# Altium footprint library BGA6C40P3X2_157X88X50B23L.PcbLib: 1 footprints
Each footprint in its own frame and in the unit in brackets; x right, y up, seen from the top. Pads: shape width x height; smd on the part's side, far side on the other; paste and mask are expansions set on the pad; w line width, h text height; cw(c..) or ccw(c..) is an arc to the next point about the centre after c.
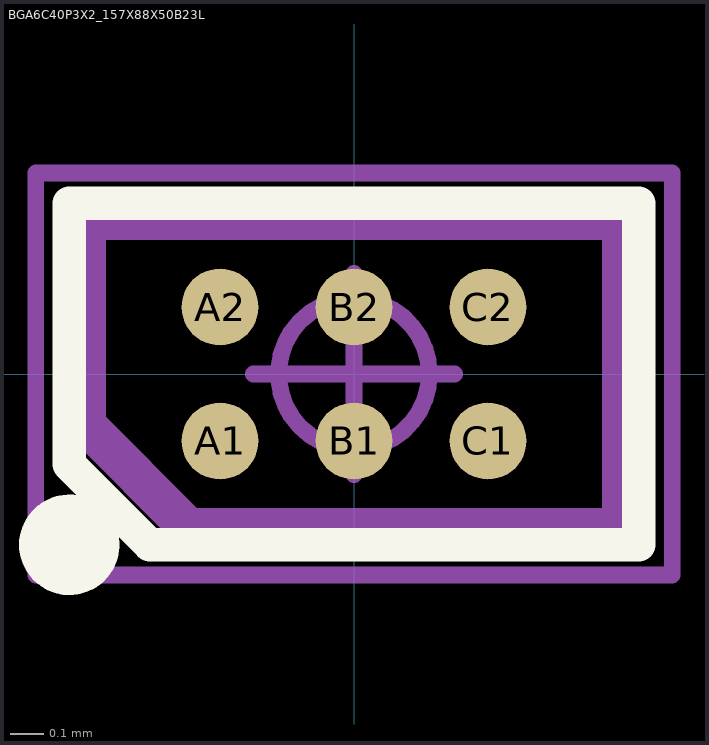
[diagram p0: the footprint, top view; thin cyan lines are the x and y axes]

## BGA6C40P3X2_157X88X50B23L [mm] "Ball Grid Array (BGA), 0.40 mm pitch, rect.; 6 pin, 1.578 mm L X 0.88 mm W X 0.50 mm H body"
height 0.5
pads (6):
  round 0.23 smd mask+0.03: A1(-0.4,-0.2) A2(-0.4,0.2) B1(0,-0.2) B2(0,0.2) C1(0.4,-0.2) C2(0.4,0.2)
Top Overlay:
  circle w0.15: c-0.85,-0.51 r0.075
  lines w0.1: -0.85,-0.27 -0.85,0.51 0.85,0.51 0.85,-0.51 -0.61,-0.51 -0.85,-0.27
Fab - Detail1, HDI1:
  lines w0.12: -0.8,-0.153 -0.493,-0.46 0.8,-0.46 0.8,0.46 -0.8,0.46 -0.8,-0.153
Courtyards/Models - Top:
  circle w0.05: c0,0 r0.225
  lines w0.05: -0.3,0 0.3,0 ; 0,-0.3 0,0.3 ; -0.95,-0.6 -0.95,0.6 0.95,0.6 0.95,-0.6 -0.95,-0.6
3D body: height 0.5, standoff 0, extent -0.789,-0.44 0.789,0.44